# Altium schematic symbol library 4DB-P108-03.SchLib: 1 symbol
Pins are listed as number, name and electrical type; pins without a type are passive.

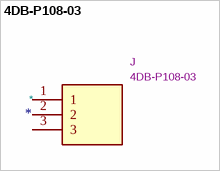
[diagram p0: symbol 4DB-P108-03]

## 4DB-P108-03
designator *  value 4DB-P108-03  Reference: J
Manufacturer_Name: TE Connectivity; ki_description: Dual Barrier, Printed Circuit Pin, Wire-to-Board, 3 Position, 8.26 mm [.325 in] Centerline, 1 Row, Buchanan 4DB Series, Barrier Strips; Footprint: 4DBP10803; Datasheet: https://www.mouser.co.il/datasheet/2/418/9/ENG_CD_2_1437667_4_N9-624224.pdfhttps://www.te.com/commerce/DocumentDelivery/DDEController?Action=srchrtrv&DocNm=1-1773458-2_BARRIER_STRIPS_QRG&DocType=Data%20Sheet&DocLang=English&PartCntxt=2-1437667-5&DocFormat; Height: 13.589; Manufacturer_Part_Number: 4DB-P108-03; Mouser Part Number: 571-214376675; Mouser Price/Stock: https://www.mouser.co.uk/ProductDetail/TE-Connectivity/4DB-P108-03?qs=cX92MwKKzGt2YIn2dZcfJQ%3D%3D; Arrow Part Number: 4DB-P108-03; Arrow Price/Stock: https://www.arrow.com/en/products/4db-p108-03/te-connectivity?utm_currency=USD&region=nac
pins: 1, 2, 3